# Altium footprint library 691 357 300 0xx B.PcbLib: 6 footprints
Each footprint in its own frame and in the unit in brackets; x right, y up, seen from the top. Pads: shape width x height; smd on the part's side, far side on the other; paste and mask are expansions set on the pad; w line width, h text height; cw(c..) or ccw(c..) is an arc to the next point about the centre after c.
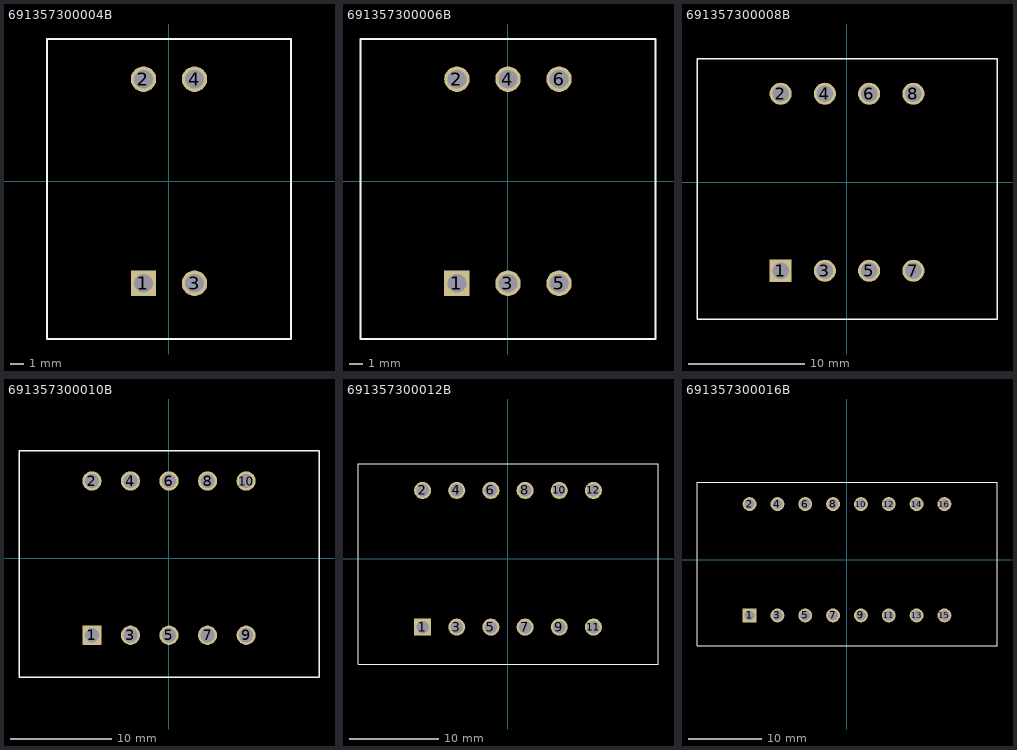
[diagram p0: the footprints below, top view; thin cyan lines are the x and y axes]

## 691357300004B [mm] "3,81mm - PCB - Double level - Vertical - with flanges - 04p"
height 21.9
pads (4):
  rect 1.9x1.9 hole 1.4: 1(-1.905,-7.62)
  round 1.9 hole 1.4: 2(-1.905,7.62) 3(1.905,-7.62) 4(1.905,7.62)
Top Overlay:
  lines w0.127: -9.105,-11.78 -9.105,10.62 9.105,10.62 9.105,-11.78 -9.105,-11.78
3D body: height 21.91, standoff -3.39, extent -9.105,-11.78 9.105,10.62

## 691357300006B [mm] "3,81mm - PCB - Double level - Vertical - with flanges - 06p"
height 21.9
pads (6):
  rect 1.9x1.9 hole 1.4: 1(-3.81,-7.62)
  round 1.9 hole 1.4: 2(-3.81,7.62) 3(0,-7.62) 4(0,7.62) 5(3.81,-7.62) 6(3.81,7.62)
Top Overlay:
  lines w0.127: -11.01,-11.78 11.01,-11.78 11.01,10.62 -11.01,10.62 -11.01,-11.78
3D body: height 21.91, standoff -3.39, extent -11.01,-11.78 11.01,10.62

## 691357300008B [mm] "3,81mm - PCB - Double level - Vertical - with flanges - 08p"
height 21.9
pads (8):
  rect 1.9x1.9 hole 1.4: 1(-5.715,-7.62)
  round 1.9 hole 1.4: 2(-5.715,7.62) 3(-1.905,-7.62) 4(-1.905,7.62) 5(1.905,-7.62) 6(1.905,7.62) 7(5.715,-7.62) 8(5.715,7.62)
Top Overlay:
  lines w0.127: -12.915,-11.78 -12.915,10.62 12.915,10.62 12.915,-11.78 -12.915,-11.78
3D body: height 21.91, standoff -3.39, extent -12.915,-11.78 12.915,10.62

## 691357300010B [mm] "3,81mm - PCB - Double level - Vertical - with flanges - 10p"
height 21.9
pads (10):
  rect 1.9x1.9 hole 1.4: 1(-7.62,-7.62)
  round 1.9 hole 1.4: 2(-7.62,7.62) 3(-3.81,-7.62) 4(-3.81,7.62) 5(0,-7.62) 6(0,7.62) 7(3.81,-7.62) 8(3.81,7.62) 9(7.62,-7.62) 10(7.62,7.62)
Top Overlay:
  lines w0.127: -14.82,-11.78 14.82,-11.78 14.82,10.62 -14.82,10.62 -14.82,-11.78
3D body: height 21.91, standoff -3.39, extent -14.82,-11.78 14.82,10.62

## 691357300012B [mm] "3,81mm - PCB - Double level - Vertical - with flanges - 12p"
height 21.9
pads (12):
  rect 1.9x1.9 hole 1.4: 1(-9.525,-7.62)
  round 1.9 hole 1.4: 2(-9.525,7.62) 3(-5.715,-7.62) 4(-5.715,7.62) 5(-1.905,-7.62) 6(-1.905,7.62) 7(1.905,-7.62) 8(1.905,7.62) 9(5.715,-7.62) 10(5.715,7.62) 11(9.525,-7.62) 12(9.525,7.62)
Top Overlay:
  lines w0.127: -16.725,-11.78 -16.725,10.62 16.725,10.62 16.725,-11.78 -16.725,-11.78
3D body: height 21.91, standoff -3.39, extent -16.725,-11.78 16.725,10.62

## 691357300016B [mm] "3,81mm - PCB - Double level - Vertical - with flanges - 16p"
height 21.9
pads (16):
  rect 1.9x1.9 hole 1.4: 1(-13.335,-7.62)
  round 1.9 hole 1.4: 2(-13.335,7.62) 3(-9.525,-7.62) 4(-9.525,7.62) 5(-5.715,-7.62) 6(-5.715,7.62) 7(-1.905,-7.62) 8(-1.905,7.62) 9(1.905,-7.62) 10(1.905,7.62) 11(5.715,-7.62) 12(5.715,7.62) 13(9.525,-7.62) 14(9.525,7.62) 15(13.335,-7.62) 16(13.335,7.62)
Top Overlay:
  lines w0.127: -20.535,-11.78 -20.535,10.62 20.535,10.62 20.535,-11.78 -20.535,-11.78
3D body: height 21.91, standoff -3.39, extent -20.535,-11.78 20.535,10.62